# Altium schematic symbol library ic.SchLib: 48 symbols (part 2 of 2)
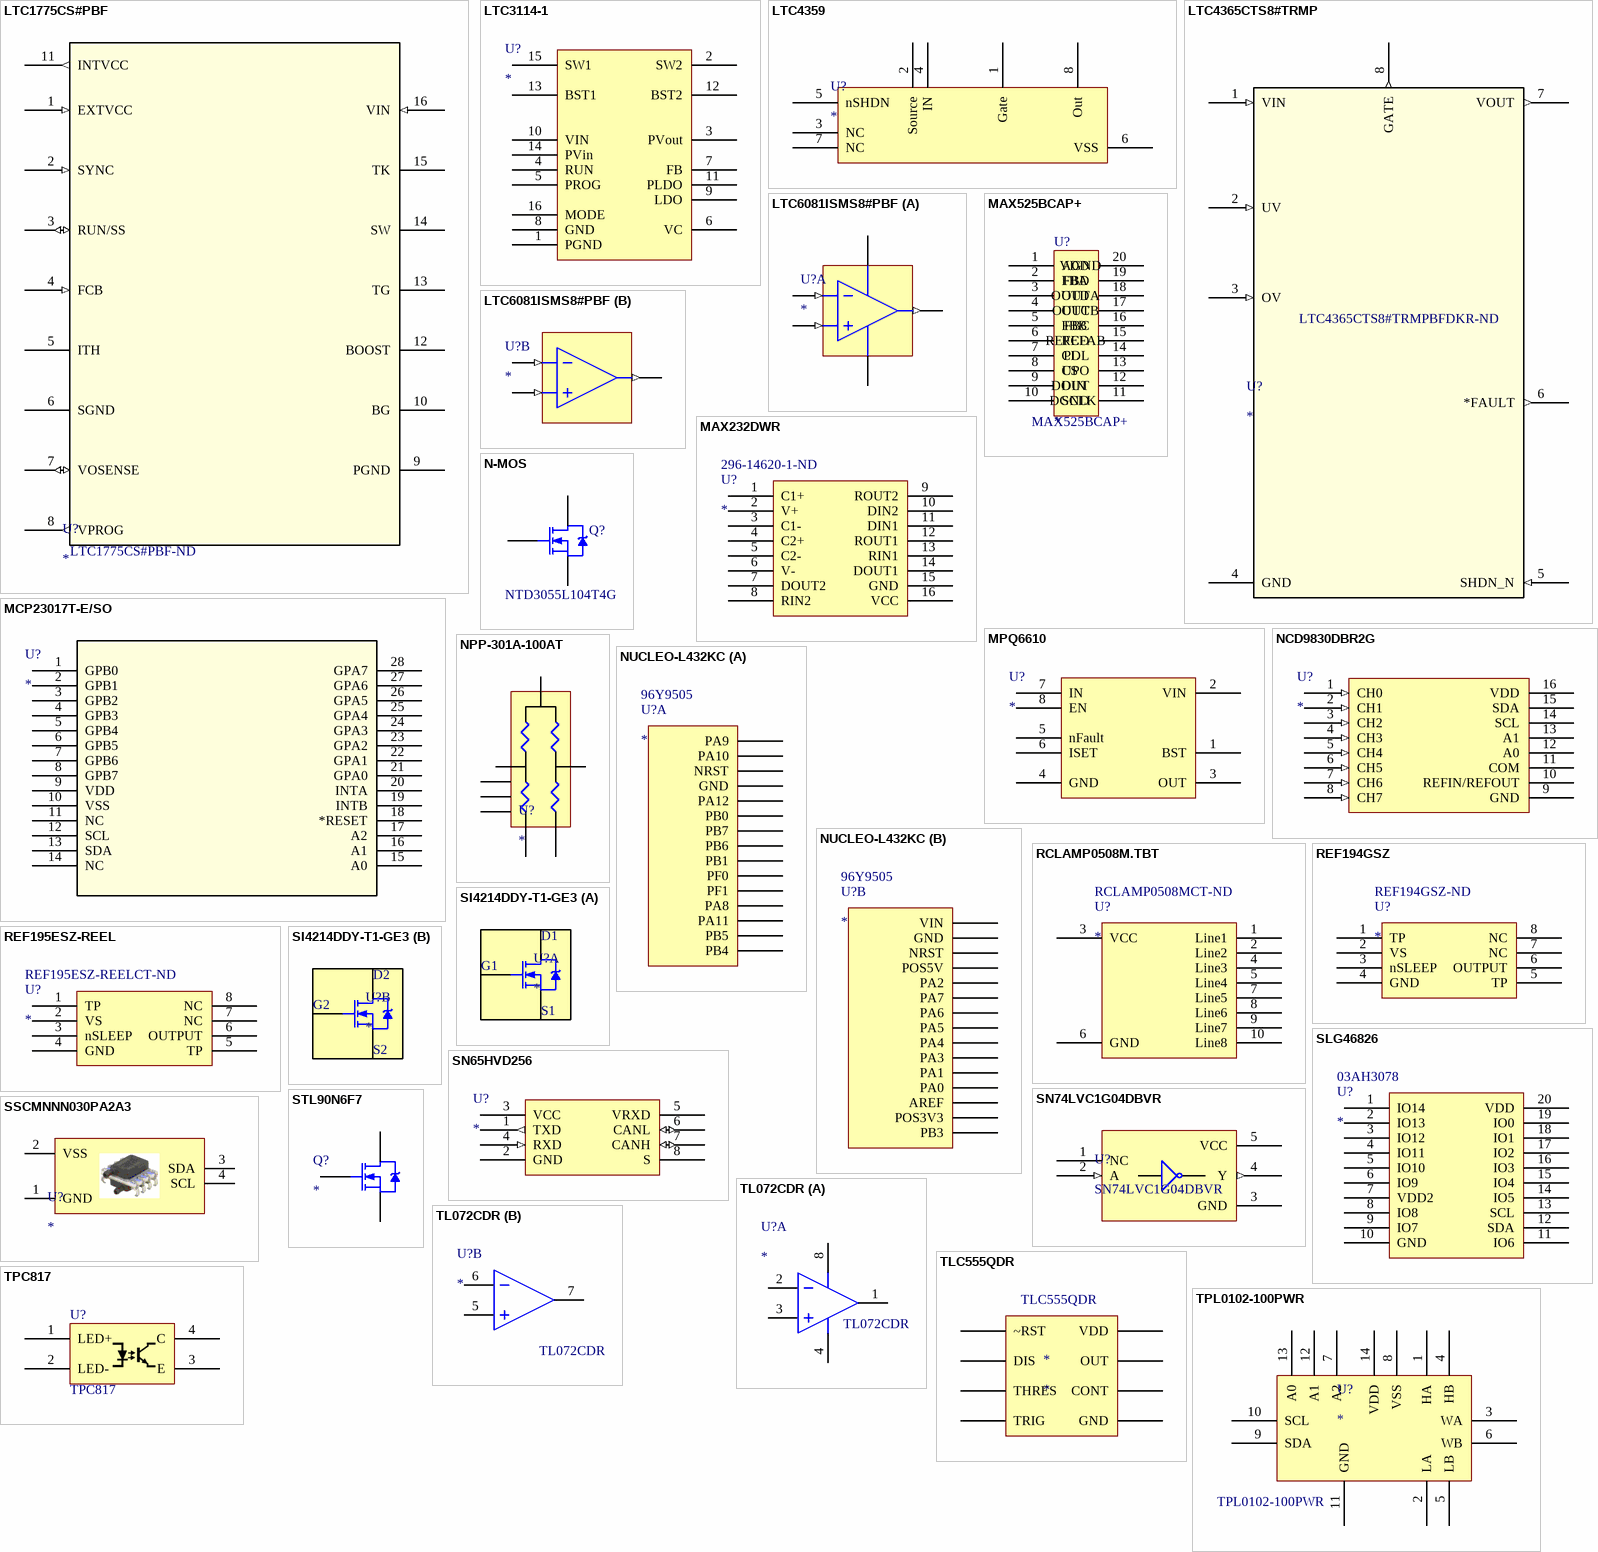
[diagram p3: symbols LTC1775CS#PBF to TPL0102-100PWR]

## TLC555QDR
designator *  Manufacturer Part Number: TLC555QDR
TI TLC555QDR TIMER, 2.1MHZ, SOIC-8; Manufacturer: Texas Instruments; Max Supply Voltage: 15V; Min Supply Voltage: 5V; Max Power Dissipation: 725mW; Nominal Supply Current: 250uA; Number of Timers/Counters: 1; Operating Supply Current: 360uA; Low Level Output Current: 100mA; High Level Output Current: -10mA; Supplier 1: Digi-Key; Stock 1: 20517; Pricing 1: 1=0.84, 10=0.736, 25=0.6912, 100=0.5642, 250=0.52404, 500=0.446, 1000=0.3568 (USD); Mount: Surface Mount; Case/Package: SOIC; Number of Pins: 8; Weight: 0.002677oz; Contact Plating: Gold; Min Operating Temperature: -40°C; Max Operating Temperature: 125°C; Packaging: Tape and Reel; Package Quantity: 2500; Frequency: 2.1MHz; Power Dissipation: 725mW; Quiescent Current: 250uA; Length: 4.9mm; Height: 1.58mm; Width: 3.91mm; Radiation Hardening: No; Lead Free: Lead Free; REACH SVHC: No SVHC; ComponentLink1URL: http://focus.ti.com/lit/ds/symlink/tlc555.pdf?src-supplier=Avnet; ComponentLink1Description: http://focus.ti.com/lit/ds/symlink/tlc555.pdf?src-supplier=Avnet; ComponentLink2URL: http://www.ti.com/lit/ds/slfs043f/slfs043f.pdf?src-supplier=Avnet+Europe; ComponentLink2Description: http://www.ti.com/lit/ds/slfs043f/slfs043f.pdf?src-supplier=Avnet+Europe; ComponentLink3URL: https://www.verical.com/server-webapp/html/getDatasheet?partID=315692&src-supplier=Verical; ComponentLink3Description: https://www.verical.com/server-webapp/html/getDatasheet?partID=315692&src-supplier=Verical; ComponentLink4URL: http://www.farnell.com/datasheets/1834067.pdf?src-supplier=Element14; ComponentLink4Description: http://www.farnell.com/datasheets/1834067.pdf?src-supplier=Element14; ComponentLink5URL: http://www.ti.com/lit/ds/symlink/tlc555.pdf?src-supplier=Digi-Key; ComponentLink5Description: http://www.ti.com/lit/ds/symlink/tlc555.pdf?src-supplier=Digi-Key; ComponentLink6URL: http://www.ti.com/general/docs/lit/getliterature.tsp?genericPartNumber=TLC555M&&fileType=pdf&src-supplier=Avnet; ComponentLink6Description: http://www.ti.com/general/docs/lit/getliterature.tsp?genericPartNumber=TLC555M&&fileType=pdf&src-supplier=Avnet; ComponentLink7URL: http://datasheet.iiic.cc/texas_instruments/TLC555QDR.pdf?src-supplier=IIIC; ComponentLink7Description: http://datasheet.iiic.cc/texas_instruments/TLC555QDR.pdf?src-supplier=IIIC; Supplier Part Number 1: 296-10341-6-ND
footprint SOP127P600X175-8N (SOP, 8-Leads, Body 4.91x3.90mm, Pitch 1.27mm, IPC Medium Density)
pins: 1 GND, 2 TRIG, 3 OUT, 4 ~RST, 5 CONT, 6 THRES, 7 DIS, 8 VDD

## TPC817
designator U?
OPTOISO 5KV TRANS 4SOP; Manufacturer: Taiwan Semi; Manufacturer P/N: TPC817S1B RAG; Digikey Link: https://www.digikey.com/product-detail/en/taiwan-semiconductor-corporation/TPC817S1B-RAG/TPC817S1BRAGCT-ND/7359679; Digikey P/N: TPC817S1BRAGCT-ND
footprint SOT200P1005X328-5N (SOT23, 5-Leads, Body 4.60x10.05mm, Pitch 2.00mm, IPC Medium Density)
pins: 1 LED+, 2 LED-, 3 E, 4 C

## TPL0102-100PWR
designator U?  Manufacturer Part Number 1: TPL0102-100PWR
IC DGTL POT 256POS 100K 14TSSOP; Manufacturer 1: Texas Instruments; Resistance: 100kR; Interface: I2C; Memory Type: Non-Volatile; Number of Positions: 256; Bandwidth: 250kHz; Tolerance: 20%; Number of Circuits: 2; Nominal Supply Current: 2mA; Max Supply Voltage: 5.5V; Min Supply Voltage: -2.7V; Temperature Coefficient: 4ppm/°C; Dual Supply Voltage: 2.75V; Differential Nonlinearity: 0.25LSB; Integral Nonlinearity (INL): 0.5LSB; Supplier 1: Digi-Key; Stock 1: 23403; Pricing 1: 1=2.06000, 10=1.84800, 25=1.74360, 100=1.39500, 250=1.22060, 500=1.18572, 1000=0.94160 (USD); RoHS: Yes; Case/Package: TSSOP; Number of Pins: 14; Min Operating Temperature: -40°C; Max Operating Temperature: 85°C; Packaging: Tape and Reel; Taper: Linear; Number of Taps: 256; Package Quantity: 2000; Number of DAC Channels: 2; Number of Channels: 2; Resistor Type: Potentiometer; Supply Current: 2mA; Series: TPL0102-100; Length: 5.1mm; Width: 4.5mm; Height: 1.05mm; Radiation Hardening: No; Lead Free: Lead Free; RoHS Compliant: Yes; REACH SVHC: No SVHC; ComponentLink1URL: https://datasheet.ciiva.com/15134/getdatasheetpartid-408785-15134944.pdf?src-supplier=Verical; ComponentLink1Description: https://datasheet.ciiva.com/15134/getdatasheetpartid-408785-15134944.pdf?src-supplier=Verical; ComponentLink2URL: https://datasheet.ciiva.com/41460/001186257-da-01-en-ic-dgtl-pot-tpl0102-100pwr-tssop-14-tid-41460191.pdf?src-supplier=Conrad; ComponentLink2Description: https://datasheet.ciiva.com/41460/001186257-da-01-en-ic-dgtl-pot-tpl0102-100pwr-tssop-14-tid-41460191.pdf?src-supplier=Conrad; ComponentLink3URL: https://datasheet.ciiva.com/1331/tpl0102-100-1331315.pdf?src-supplier=Digi-Key; ComponentLink3Description: https://datasheet.ciiva.com/1331/tpl0102-100-1331315.pdf?src-supplier=Digi-Key; ComponentLink4URL: https://datasheet.ciiva.com/1331/tpl0102-100-1331316.pdf?src-supplier=Digi-Key; ComponentLink4Description: https://datasheet.ciiva.com/1331/tpl0102-100-1331316.pdf?src-supplier=Digi-Key; ComponentLink5URL: https://datasheet.ciiva.com/1331/tpl0102-100-1331317.pdf?src-supplier=Digi-Key; ComponentLink5Description: https://datasheet.ciiva.com/1331/tpl0102-100-1331317.pdf?src-supplier=Digi-Key; ComponentLink6URL: https://datasheet.ciiva.com/14194/tpl0102-100-14194533.pdf?src-supplier=Avnet; ComponentLink6Description: https://datasheet.ciiva.com/14194/tpl0102-100-14194533.pdf?src-supplier=Avnet; Supplier Part Number 1: 296-30048-1-ND
footprint TSOP65P640X120-14N (TSOP, 14-Leads, Body 5.00x4.40mm, Pitch 0.65mm, IPC Medium Density)
pins: 1 HA, 2 LA, 3 WA, 4 HB, 5 LB, 6 WB, 7 A2, 8 VSS, 9 SDA, 10 SCL, 11 GND, 12 A1, 13 A0, 14 VDD

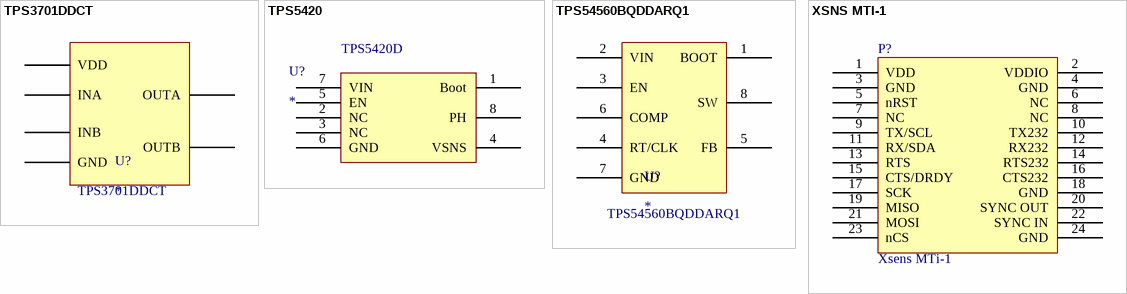
[diagram p2: symbols TPS3701DDCT to XSNS MTI-1]

## TPS3701DDCT
designator U?  Manufacturer Part Number: TPS3701DDCT
IC COMP WINDOW W/REF 6SOT; Manufacturer: Texas Instruments; Min Supply Voltage: 1.8V; Max Supply Voltage: 36V; Number of Elements: 1; Quiescent Current: 11uA; Propagation Delay: 28.1us; Hysteresis: 5.5mV; Response Time: 155us; Supplier 1: Digi-Key; Stock 1: 2174; Pricing 1: 1=2.74, 10=2.459, 25=2.32, 100=1.8561 (USD); Mount: Surface Mount; Case/Package: SOT-23-6; Number of Pins: 6; Min Operating Temperature: -40°C; Max Operating Temperature: 125°C; Packaging: Tape and Reel; REACH SVHC: No SVHC; Lead Free: Lead Free; ComponentLink1URL: http://www.ti.com/general/docs/lit/getliterature.tsp?genericPartNumber=TPS3701&amp;&amp;fileType=pdf&src-supplier=Farnell; ComponentLink1Description: http://www.ti.com/general/docs/lit/getliterature.tsp?genericPartNumber=TPS3701&amp;&amp;fileType=pdf&src-supplier=Farnell; ComponentLink2URL: http://www.ti.com/general/docs/lit/getliterature.tsp?genericPartNumber=TPS3701&&fileType=pdf&src-supplier=Element14; ComponentLink2Description: http://www.ti.com/general/docs/lit/getliterature.tsp?genericPartNumber=TPS3701&&fileType=pdf&src-supplier=Element14; ComponentLink3URL: http://www.ti.com/lit/ds/symlink/tps3701.pdf?src-supplier=Digi-Key; ComponentLink3Description: http://www.ti.com/lit/ds/symlink/tps3701.pdf?src-supplier=Digi-Key; ComponentLink4URL: http://www.ti.com/general/docs/lit/getliterature.tsp?genericPartNumber=TPS3701&&fileType=pdf&src-supplier=Avnet; ComponentLink4Description: http://www.ti.com/general/docs/lit/getliterature.tsp?genericPartNumber=TPS3701&&fileType=pdf&src-supplier=Avnet; ComponentLink5URL: http://www.ti.com/lit/gpn/tps3701?src-supplier=Mouser; ComponentLink5Description: http://www.ti.com/lit/gpn/tps3701?src-supplier=Mouser; Supplier Part Number 1: 296-38622-1-ND
footprint TSOP95P280X110-6N (TSOP, 6-Leads, Body 2.90x1.60mm, Pitch 0.95mm, IPC Medium Density)
pins: 1 OUTA, 2 GND, 3 INA, 4 INB, 5 VDD, 6 OUTB

## TPS5420
designator U?  Manufacturer Part Number: TPS5420D
5.5V to 36V Input, 2A, 500kHz Step-Down Converter; Manufacturer: Texas Instruments; Output Voltage: 31V; Quiescent Current: 3mA; Number of Outputs: 1; Synchronous Rectifier: No; Min Output Voltage: 1.23V; Output Type: Adjustable; Efficiency: 95%; Supplier 1: Digi-Key; Stock 1: 5221; Pricing 1: 1=3.78000, 10=3.39400, 75=3.20853, 150=2.78073, 525=2.36716, 1050=1.99640, 2550=1.89658, 5025=1.82528 (USD); RoHS: Yes; Case/Package: D; Number of Pins: 8; Weight: 0.002677oz; Min Operating Temperature: -40°C; Max Operating Temperature: 125°C; Output Current: 2A; Switching Frequency: 500kHz; Packaging: Rail/Tube; Package Quantity: 75; Max Input Voltage: 36V; Min Input Voltage: 5.5V; Max Output Voltage: 31V; Max Output Current: 2A; Operating Supply Voltage: 36V; Length: 4.9mm; Height: 1.58mm; Width: 3.91mm; Radiation Hardening: No; Lead Free: Lead Free; REACH SVHC: No SVHC; ComponentLink1URL: https://datasheet.ciiva.com/4880/slvs642c-120503-4880259.pdf?src-supplier=Mouser; ComponentLink1Description: https://datasheet.ciiva.com/4880/slvs642c-120503-4880259.pdf?src-supplier=Mouser; ComponentLink2URL: https://datasheet.ciiva.com/15113/getdatasheetpartid-188336-15113748.pdf?src-supplier=Verical; ComponentLink2Description: https://datasheet.ciiva.com/15113/getdatasheetpartid-188336-15113748.pdf?src-supplier=Verical; ComponentLink3URL: https://datasheet.ciiva.com/27051/1113040-27051457.pdf?src-supplier=Jameco; ComponentLink3Description: https://datasheet.ciiva.com/27051/1113040-27051457.pdf?src-supplier=Jameco; ComponentLink4URL: https://datasheet.ciiva.com/26896/tps5420d-26896666.pdf?src-supplier=IIIC; ComponentLink4Description: https://datasheet.ciiva.com/26896/tps5420d-26896666.pdf?src-supplier=IIIC; ComponentLink5URL: https://datasheet.ciiva.com/2026/tps5420-2026757.pdf?src-supplier=Digi-Key; ComponentLink5Description: https://datasheet.ciiva.com/2026/tps5420-2026757.pdf?src-supplier=Digi-Key; ComponentLink6URL: https://datasheet.ciiva.com/7993/1764415-7993820.pdf?src-supplier=Element14; ComponentLink6Description: https://datasheet.ciiva.com/7993/1764415-7993820.pdf?src-supplier=Element14; ComponentLink7URL: https://datasheet.ciiva.com/3220/tps5420-3220182.pdf?src-supplier=Avnet; ComponentLink7Description: https://datasheet.ciiva.com/3220/tps5420-3220182.pdf?src-supplier=Avnet; ComponentLink8URL: https://datasheet.ciiva.com/26248/tps5420-26248554.pdf?src-supplier=Avnet+Europe; ComponentLink8Description: https://datasheet.ciiva.com/26248/tps5420-26248554.pdf?src-supplier=Avnet+Europe; Supplier Part Number 1: 296-19671-5-ND
footprint SOP127P600X175-8N (SOP, 8-Leads, Body 4.91x3.90mm, Pitch 1.27mm, IPC Medium Density)
pins: 1 Boot, 2 NC (power), 3 NC, 4 VSNS (power), 5 EN, 6 GND, 7 VIN, 8 PH

## TPS54560BQDDARQ1
designator U?  Manufacturer Part Number: TPS54560BQDDARQ1
IC REG BUCK SPLT ADJ 5A 8PWRSOIC; Manufacturer: Texas Instruments; Output Type: Adjustable; Output Configuration: Positive; Number of Outputs: 1; Min Input Voltage: 4.5V; Max Input Voltage: 60V; Min Output Voltage: 800mV; Max Output Voltage: 58.8V; Switching Frequency: 2.5MHz; Synchronous Rectifier: No; Supplier 1: Digi-Key; Stock 1: 1216; Pricing 1: 1=5.95, 10=5.347, 100=4.1559, 500=3.59428, 1000=2.98775 (USD); Mount: Surface Mount; Number of Pins: 8; Min Operating Temperature: -40°C; Max Operating Temperature: 125°C; Packaging: Tape and Reel; Output Current: 5A; ComponentLink1URL: http://www.ti.com/lit/ds/symlink/tps54560b-q1.pdf?src-supplier=Digi-Key; ComponentLink1Description: http://www.ti.com/lit/ds/symlink/tps54560b-q1.pdf?src-supplier=Digi-Key; Supplier Part Number 1: 296-45534-6-ND
footprint SOP127P600X175-8N - Thermal Pad
pins: 1 BOOT, 2 VIN, 3 EN, 4 RT/CLK, 5 FB, 6 COMP, 7 GND, 8 SW

## XSNS MTI-1
designator P?  (value not drawn)
MTi-3-8A7G6 3D AHRS/VRU/IMU Module; Manufacturer: Xsens; Manufacturer P/N: MTI-3-DK; Digikey Link: https://www.mouser.com/ProductDetail/Xsens/MTI-3-DK?qs=55YtniHzbhBGvlIRYNoxgQ%3d%3d; Digikey P/N: 512-MTI-3-DK
footprint MTI-3 (PinHeader 2x12 TH Pitch 2.54mm)
pins: 1 VDD, 2 VDDIO, 3 GND, 4 GND, 5 nRST, 6 NC, 7 NC, 8 NC, 9 TX/SCL, 10 TX232, 11 RX/SDA, 12 RX232, 13 RTS, 14 RTS232, 15 CTS/DRDY, 16 CTS232, 17 SCK, 18 GND, 19 MISO, 20 SYNC OUT, 21 MOSI, 22 SYNC IN, 23 nCS, 24 GND
text: Xsens MTi-1